# Altium footprint library SamacSys.PcbLib: 27 footprints (part 1 of 2)
Each footprint in its own frame and in the unit in brackets; x right, y up, seen from the top. Pads: shape width x height; smd on the part's side, far side on the other; paste and mask are expansions set on the pad; w line width, h text height; cw(c..) or ccw(c..) is an arc to the next point about the centre after c.
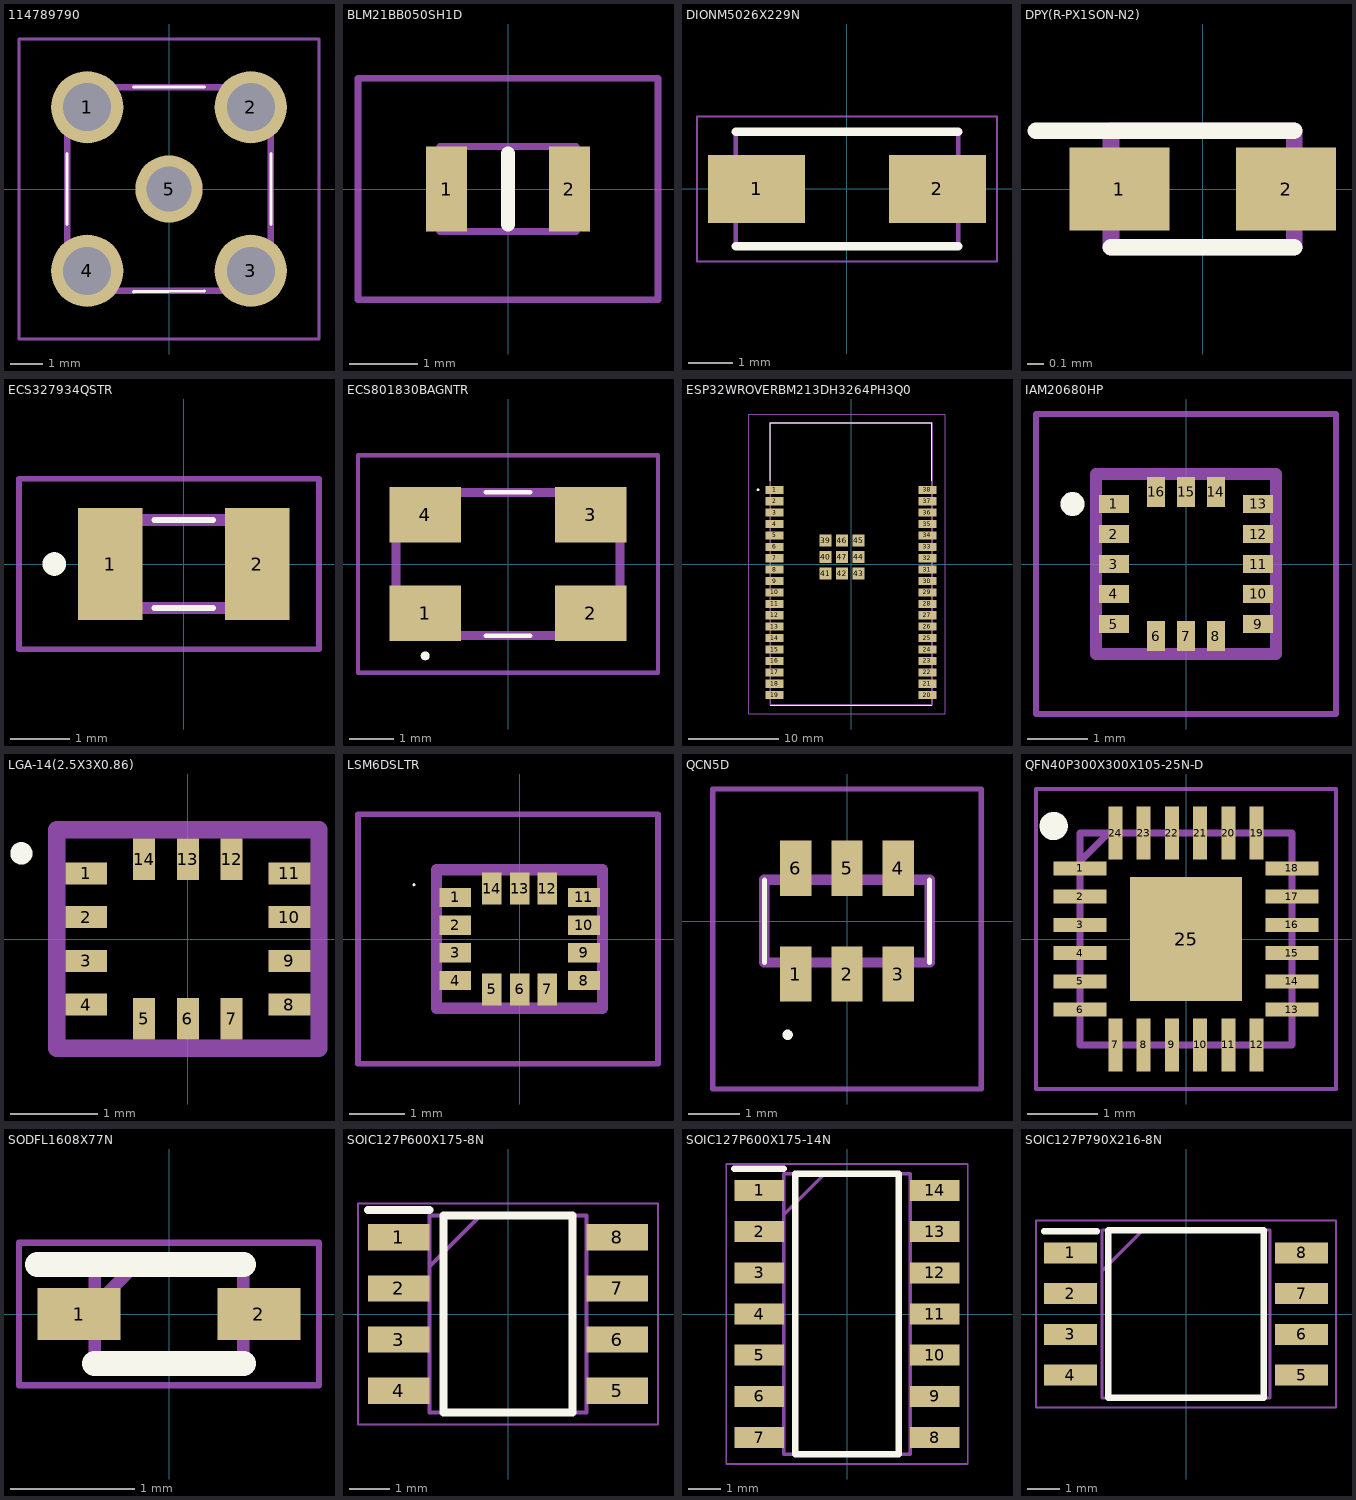
[diagram p0: the footprints below, top view; thin cyan lines are the x and y axes]

## 114789790 [mm]
pads (5):
  round 2.25 hole 1.5: 1(-2.55,2.563) 2(2.55,2.563) 3(2.55,-2.537) 4(-2.55,-2.537)
  round 2.1 hole 1.4: 5(0,0.013)
Top Overlay:
  lines w0.1: -3.175,-1.087 -3.175,1.113 ; -1.1,-3.188 1.1,-3.162 ; -1.1,3.188 1.1,3.188 ; 3.175,-1.087 3.175,1.113
Mechanical 13:
  lines w0.2: -3.175,-3.162 -3.175,3.188 3.175,3.188 3.175,-3.162 -3.175,-3.162
Mechanical 15:
  lines w0.1: -4.675,-4.662 -4.675,4.688 4.675,4.688 4.675,-4.662 -4.675,-4.662
3D body "1-1478979-0.stp": height 9.52, standoff -3.48, extent -3.175,-3.165 3.175,3.185

## BLM21BB050SH1D [mm]
pads (2):
  rect 0.6x1.25 smd: 1(-0.9,0) 2(0.9,0)
Top Overlay:
  lines w0.2: 0,-0.525 0,0.525
Mechanical 13:
  lines w0.1: -1,-0.625 -1,0.625 1,0.625 1,-0.625 -1,-0.625
Mechanical 15:
  lines w0.1: -2.2,-1.625 -2.2,1.625 2.2,1.625 2.2,-1.625 -2.2,-1.625
3D body "BLM21BD102SN1D.stp": height 1.25, standoff 0, extent -1,-0.625 1,0.625

## DIONM5026X229N [mm]
pads (2):
  rect 2.2x1.55 smd: 1(-2.05,0) 2(2.05,0)
Top Overlay:
  lines w0.2: -2.52,-1.298 2.52,-1.298 ; -2.52,1.298 2.52,1.298
Mechanical 13:
  lines w0.1: -2.52,-1.298 -2.52,1.298 2.52,1.298 2.52,-1.298 -2.52,-1.298
Mechanical 15:
  lines w0.05: -3.4,-1.645 -3.4,1.645 3.4,1.645 3.4,-1.645 -3.4,-1.645
3D body "SMAJ5.0CA.stp": height 2.29, standoff 0, extent -2.52,-1.298 2.52,1.298

## DPY(R-PX1SON-N2) [mm]
pads (2):
  rect 0.6x0.5 smd: 1(-0.5,0) 2(0.5,0)
Top Overlay:
  lines w0.1: -1,0.35 0.55,0.35 ; -0.55,-0.35 0.55,-0.35
Mechanical 13:
  lines w0.1: -0.55,-0.35 -0.55,0.35 0.55,0.35 0.55,-0.35 -0.55,-0.35
3D body "TPD1E10B06DPYT.stp": height 0.45, standoff 0, extent -0.5,-0.3 0.5,0.3

## ECS327934QSTR [mm]
pads (2):
  rect 1.1x1.9 smd: 1(-1.25,0) 2(1.25,0)
Top Overlay:
  lines w0.1: -0.5,-0.75 0.5,-0.75 ; -0.5,0.75 0.5,0.75
  lines w0.2: -2.2,-0.1 cw(c-2.2,0) -2.2,0.1 cw(c-2.2,0) -2.2,-0.1
Mechanical 13:
  lines w0.2: -1.6,-0.75 -1.6,0.75 1.6,0.75 1.6,-0.75 -1.6,-0.75
Mechanical 15:
  lines w0.1: -2.8,-1.45 -2.8,1.45 2.3,1.45 2.3,-1.45 -2.8,-1.45
3D body "ECS-.327-9-34QCS-TR.stp": height 0.9, standoff 0, extent -1.64,-0.75 1.56,0.75

## ECS801830BAGNTR [mm]
pads (4):
  rect 1.6x1.25 smd: 1(-1.85,-1.1) 2(1.85,-1.1) 3(1.85,1.1) 4(-1.85,1.1)
Top Overlay:
  lines w0.1: -0.5,-1.6 0.5,-1.6 ; -0.5,1.6 0.5,1.6 ; -1.85,-2.1 ccw(c-1.85,-2.05) -1.85,-2 ccw(c-1.85,-2.05) -1.85,-2.1
Mechanical 13:
  lines w0.2: -2.5,-1.6 -2.5,1.6 2.5,1.6 2.5,-1.6 -2.5,-1.6
Mechanical 15:
  lines w0.1: -3.35,-2.425 -3.35,2.425 3.35,2.425 3.35,-2.425 -3.35,-2.425
3D body "ECS-80-10-30B-CWN-TR.stp": height 0.95, standoff 0, extent -2.525,-1.6 2.525,1.6

## ESP32WROVERBM213DH3264PH3Q0 [mm]
pads (47):
  rect 2x0.9 smd: 1(-8.5,8.26) 2(-8.5,6.99) 3(-8.5,5.72) 4(-8.5,4.45) 5(-8.5,3.18) 6(-8.5,1.91) 7(-8.5,0.64) 8(-8.5,-0.63) 9(-8.5,-1.9) 10(-8.5,-3.17) 11(-8.5,-4.44) 12(-8.5,-5.71) 13(-8.5,-6.98) 14(-8.5,-8.25) 15(-8.5,-9.52) 16(-8.5,-10.79) 17(-8.5,-12.06) 18(-8.5,-13.33) 19(-8.5,-14.6) 20(8.5,-14.6) 21(8.5,-13.33) 22(8.5,-12.06) 23(8.5,-10.79) 24(8.5,-9.52) 25(8.5,-8.25) 26(8.5,-6.98) 27(8.5,-5.71) 28(8.5,-4.44) 29(8.5,-3.17) 30(8.5,-1.9) 31(8.5,-0.63) 32(8.5,0.64) 33(8.5,1.91) 34(8.5,3.18) 35(8.5,4.45) 36(8.5,5.72) 37(8.5,6.99) 38(8.5,8.26)
  rect 1.33x1.33 smd: 39(-2.835,2.595) 40(-2.835,0.76) 41(-2.835,-1.075) 42(-1,-1.075) 43(0.835,-1.075) 44(0.835,0.76) 45(0.835,2.595) 46(-1,2.595) 47(-1,0.76)
Top Overlay:
  lines w0.1: -9,15.7 9,15.7 ; -9,15.7 9,15.7 ; -9,15.7 -9,9.25 -9,15.7 ; 9,15.7 9,9.25 9,15.7 ; -9,-15.7 9,-15.7 -9,-15.7
  lines w0.2: -10.4,8.26 ccw(c-10.35,8.26) -10.3,8.26 ; -10.4,8.26 cw(c-10.35,8.26) -10.3,8.26 ; -10.4,8.26 ccw(c-10.35,8.26) -10.3,8.26
Mechanical 13:
  lines w0.2: -9,-15.7 -9,15.7 9,15.7 9,-15.7 -9,-15.7
Mechanical 15:
  lines w0.1: -11.4,-16.7 -11.4,16.7 10.5,16.7 10.5,-16.7 -11.4,-16.7
3D body "ESP32-WROVER-B_M213DH3264PH3Q0_.stp": height 3.5, standoff 0, extent -9,-15.7 9,15.7

## IAM20680HP [mm]
pads (16):
  rect 0.5x0.3 smd: 1(-1.2,1) 2(-1.2,0.5) 3(-1.2,0) 4(-1.2,-0.5) 5(-1.2,-1) 9(1.2,-1) 10(1.2,-0.5) 11(1.2,0) 12(1.2,0.5) 13(1.2,1)
  rect 0.3x0.5 smd: 6(-0.5,-1.2) 7(0,-1.2) 8(0.5,-1.2) 14(0.5,1.2) 15(0,1.2) 16(-0.5,1.2)
Top Overlay:
  lines w0.2: -1.891,0.9 ccw(c-1.891,1) -1.891,1.1 ccw(c-1.891,1) -1.891,0.9
Mechanical 13:
  lines w0.2: -1.5,-1.5 -1.5,1.5 1.5,1.5 1.5,-1.5 -1.5,-1.5
Mechanical 15:
  lines w0.1: -2.5,-2.5 -2.5,2.5 2.5,2.5 2.5,-2.5 -2.5,-2.5
3D body "IAM-20680HP.stp": height 0.71, standoff -0.04, extent -1.5,-1.5 1.5,1.5

## LGA-14(2.5X3X0.86) [mm]
pads (14):
  rect 0.475x0.25 smd: 1(-1.162,0.75) 2(-1.162,0.25) 3(-1.162,-0.25) 4(-1.162,-0.75) 8(1.162,-0.75) 9(1.162,-0.25) 10(1.162,0.25) 11(1.162,0.75)
  rect 0.25x0.475 smd: 5(-0.5,-0.913) 6(0,-0.913) 7(0.5,-0.913) 12(0.5,0.913) 13(0,0.913) 14(-0.5,0.913)
Top Overlay:
  circle w0.2: c-1.905,0.98 r0.027
Mechanical 13:
  lines w0.2: -1.5,-1.25 -1.5,1.25 1.5,1.25 1.5,-1.25 -1.5,-1.25
3D body "LSM6DSOTR.stp": height 0.86, standoff 0, extent -1.5,-1.25 1.5,1.25

## LSM6DSLTR [mm]
pads (14):
  rect 0.575x0.35 smd: 1(-1.163,0.75) 2(-1.163,0.25) 3(-1.163,-0.25) 4(-1.163,-0.75) 8(1.163,-0.75) 9(1.163,-0.25) 10(1.163,0.25) 11(1.163,0.75)
  rect 0.35x0.575 smd: 5(-0.5,-0.912) 6(0,-0.912) 7(0.5,-0.912) 12(0.5,0.912) 13(0,0.912) 14(-0.5,0.912)
Top Overlay:
  lines w0.027: -1.918,0.98 cw(c-1.904,0.98) -1.89,0.98 cw(c-1.904,0.98) -1.918,0.98
Mechanical 13:
  lines w0.2: -1.5,-1.25 -1.5,1.25 1.5,1.25 1.5,-1.25 -1.5,-1.25
Mechanical 15:
  lines w0.1: -2.918,-2.25 -2.918,2.25 2.5,2.25 2.5,-2.25 -2.918,-2.25
3D body "LSM6DSLTR.stp": height 0.86, standoff 0, extent -1.5,-1.25 1.5,1.25

## QCN5D [mm]
pads (6):
  rect 0.61x1.07 smd: 1(-0.99,-1.025) 2(0,-1.025) 3(0.99,-1.025) 4(0.99,1.025) 5(0,1.025) 6(-0.99,1.025)
Top Overlay:
  lines w0.1: -1.6,-0.8 -1.6,0.8 ; 1.6,-0.8 1.6,0.8 ; -1.2,-2.2 cw(c-1.15,-2.2) -1.1,-2.2 cw(c-1.15,-2.2) -1.2,-2.2
Mechanical 13:
  lines w0.2: -1.6,-0.8 -1.6,0.8 1.6,0.8 1.6,-0.8 -1.6,-0.8
Mechanical 15:
  lines w0.1: -2.6,-3.25 -2.6,2.56 2.6,2.56 2.6,-3.25 -2.6,-3.25
3D body "QCN-5D+.stp": height 1.17, standoff 0, extent -1.6,-0.8 1.6,0.8

## QFN40P300X300X105-25N-D [mm]
pads (25):
  rect 0.75x0.2 smd: 1(-1.5,1) 2(-1.5,0.6) 3(-1.5,0.2) 4(-1.5,-0.2) 5(-1.5,-0.6) 6(-1.5,-1) 13(1.5,-1) 14(1.5,-0.6) 15(1.5,-0.2) 16(1.5,0.2) 17(1.5,0.6) 18(1.5,1)
  rect 0.2x0.75 smd: 7(-1,-1.5) 8(-0.6,-1.5) 9(-0.2,-1.5) 10(0.2,-1.5) 11(0.6,-1.5) 12(1,-1.5) 19(1,1.5) 20(0.6,1.5) 21(0.2,1.5) 22(-0.2,1.5) 23(-0.6,1.5) 24(-1,1.5)
  rect 1.59x1.75 smd: 25(0,0)
Top Overlay:
  circle w0.2: c-1.875,1.6 r0.1
Mechanical 13:
  lines w0.1: -1.5,1.1 -1.1,1.5 ; -1.5,-1.5 -1.5,1.5 1.5,1.5 1.5,-1.5 -1.5,-1.5
Mechanical 15:
  lines w0.05: -2.125,-2.125 -2.125,2.125 2.125,2.125 2.125,-2.125 -2.125,-2.125
3D body "ICM-20948.stp": height 0.98, standoff -0.02, extent -1.5,-1.5 1.5,1.5

## SODFL1608X77N [mm]
pads (2):
  rect 0.67x0.42 smd: 1(-0.725,0) 2(0.725,0)
Top Overlay:
  lines w0.2: -1.06,0.4 0.6,0.4 ; -0.6,-0.4 0.6,-0.4
Mechanical 13:
  lines w0.1: -0.6,0.065 -0.265,0.4 ; -0.6,-0.4 -0.6,0.4 0.6,0.4 0.6,-0.4 -0.6,-0.4
Mechanical 15:
  lines w0.05: -1.21,-0.575 -1.21,0.575 1.21,0.575 1.21,-0.575 -1.21,-0.575
3D body "TPD1E10B06DYAR.stp": height 0.77, standoff 0, extent -0.8,-0.4 0.8,0.4

## SOIC127P600X175-8N [mm]
pads (8):
  rect 1.525x0.65 smd: 1(-2.712,1.905) 2(-2.712,0.635) 3(-2.712,-0.635) 4(-2.712,-1.905) 5(2.712,-1.905) 6(2.712,-0.635) 7(2.712,0.635) 8(2.712,1.905)
Top Overlay:
  lines w0.2: -3.475,2.58 -1.95,2.58 ; -1.6,-2.45 1.6,-2.45 1.6,2.45 -1.6,2.45 -1.6,-2.45
Mechanical 13:
  lines w0.1: -1.95,1.18 -0.68,2.45 ; -1.95,-2.45 1.95,-2.45 1.95,2.45 -1.95,2.45 -1.95,-2.45
Mechanical 15:
  lines w0.05: -3.725,-2.75 3.725,-2.75 3.725,2.75 -3.725,2.75 -3.725,-2.75
3D body "NE555DR.stp": height 1.75, standoff 0, extent -3,-2.45 3,2.45

## SOIC127P600X175-14N [mm]
pads (14):
  rect 1.525x0.65 smd: 1(-2.712,3.81) 2(-2.712,2.54) 3(-2.712,1.27) 4(-2.712,0) 5(-2.712,-1.27) 6(-2.712,-2.54) 7(-2.712,-3.81) 8(2.712,-3.81) 9(2.712,-2.54) 10(2.712,-1.27) 11(2.712,0) 12(2.712,1.27) 13(2.712,2.54) 14(2.712,3.81)
Top Overlay:
  lines w0.2: -3.475,4.485 -1.95,4.485 ; -1.6,-4.325 -1.6,4.325 1.6,4.325 1.6,-4.325 -1.6,-4.325
Mechanical 13:
  lines w0.1: -1.95,3.055 -0.68,4.325 ; -1.95,-4.325 -1.95,4.325 1.95,4.325 1.95,-4.325 -1.95,-4.325
Mechanical 15:
  lines w0.05: -3.725,-4.625 -3.725,4.625 3.725,4.625 3.725,-4.625 -3.725,-4.625
3D body "MAX3079EESD+.stp": height 1.75, standoff 0, extent -3,-4.325 3,4.325

## SOIC127P790X216-8N [mm]
pads (8):
  rect 1.65x0.65 smd: 1(-3.6,1.905) 2(-3.6,0.635) 3(-3.6,-0.635) 4(-3.6,-1.905) 5(3.6,-1.905) 6(3.6,-0.635) 7(3.6,0.635) 8(3.6,1.905)
Top Overlay:
  lines w0.2: -4.425,2.58 -2.775,2.58 ; -2.425,-2.615 2.425,-2.615 2.425,2.615 -2.425,2.615 -2.425,-2.615
Mechanical 13:
  lines w0.1: -2.615,1.345 -1.345,2.615 ; -2.615,-2.615 2.615,-2.615 2.615,2.615 -2.615,2.615 -2.615,-2.615
Mechanical 15:
  lines w0.05: -4.675,-2.915 4.675,-2.915 4.675,2.915 -4.675,2.915 -4.675,-2.915
3D body "W25Q128JVSIQ.stp": height 2.16, standoff 0, extent -3.95,-2.615 3.95,2.615